# Altium footprint library MOS SOP8.PcbLib: 1 footprints
Each footprint in its own frame and in the unit in brackets; x right, y up, seen from the top. Pads: shape width x height; smd on the part's side, far side on the other; paste and mask are expansions set on the pad; w line width, h text height; cw(c..) or ccw(c..) is an arc to the next point about the centre after c.
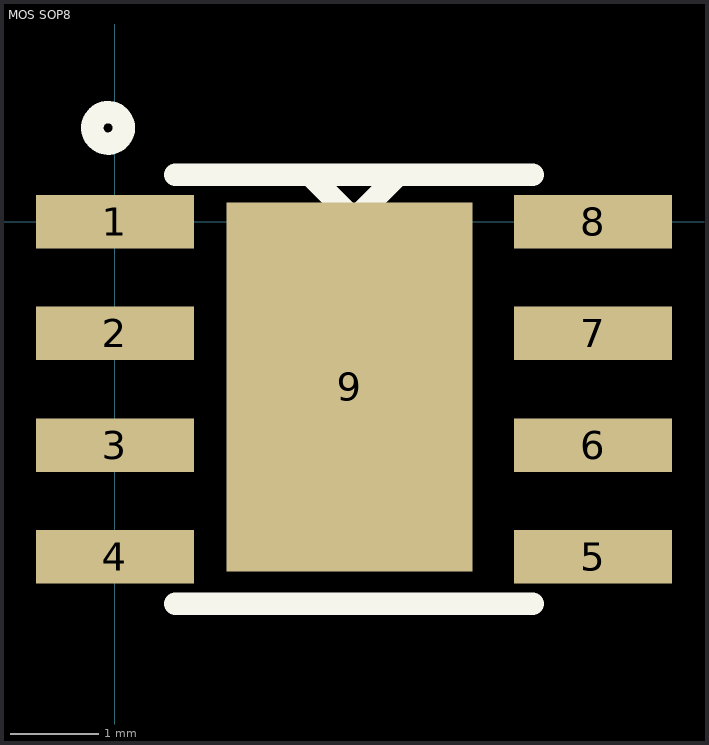
[diagram p0: the footprint, top view; thin cyan lines are the x and y axes]

## MOS SOP8 [mil]
pads (9):
  rect 70.87x24 smd: 1(0,0) 2(0,-50) 3(0,-100) 4(0,-150) 5(214,-150) 6(214,-100) 7(214,-50) 8(214,0)
  rect 110.24x165.35 smd: 9(105,-74)
Top Overlay:
  circle w10: c-3.07,42 r7.07
  lines w10: 27,-171 187,-171 ; 27,21 187,21 ; 87,21 107,1 127,21
Top Solder:
  rectangle: 59,-166.19 154,15.81
Bottom Solder:
  rectangle: 40,-165.81 174,16.19